# Altium footprint library SnapEDApcb.PcbLib: 1 footprints
Each footprint in its own frame and in the unit in brackets; x right, y up, seen from the top. Pads: shape width x height; smd on the part's side, far side on the other; paste and mask are expansions set on the pad; w line width, h text height; cw(c..) or ccw(c..) is an arc to the next point about the centre after c.
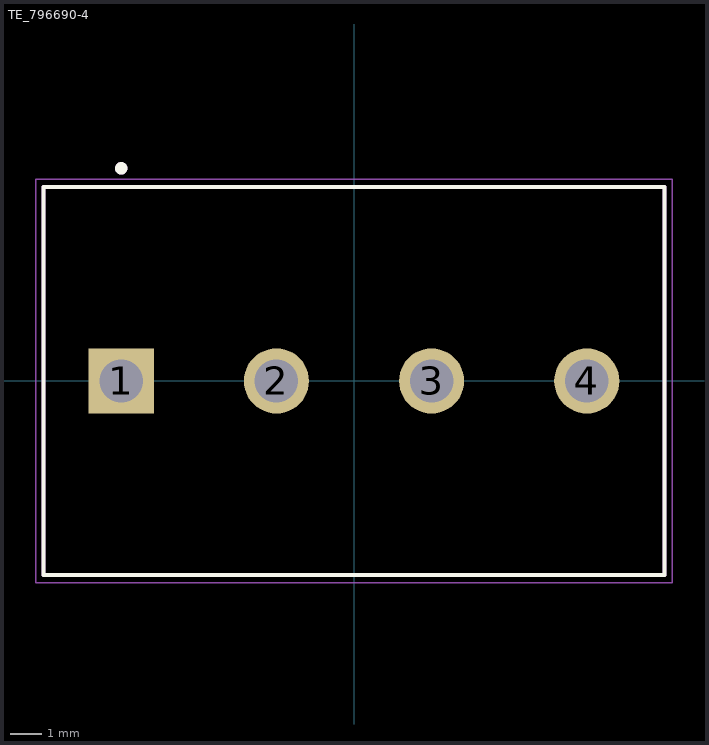
[diagram p0: the footprint, top view; thin cyan lines are the x and y axes]

## TE_796690-4 [mm]
pads (4):
  rect 2.1x2.1 hole 1.4: 1(-7.5,0)
  round 2.1 hole 1.4: 2(-2.5,0) 3(2.5,0) 4(7.5,0)
Top Overlay:
  circle w0.2: c-7.5,6.85 r0.1
  lines w0.127: -10,-6.25 10,-6.25 10,6.25 -10,6.25 -10,-6.25
Mechanical 13:
  circle w0.2: c-7.5,6.85 r0.1
  lines w0.127: -10,-6.25 10,-6.25 10,6.25 -10,6.25 -10,-6.25
Mechanical 15:
  lines w0.05: -10.25,-6.5 10.25,-6.5 10.25,6.5 -10.25,6.5 -10.25,-6.5